# Altium footprint library Capacitor Tantalum Radial Bead.PcbLib: 37 footprints (part 3 of 3)
Each footprint in its own frame and in the unit in brackets; x right, y up, seen from the top. Pads: shape width x height; smd on the part's side, far side on the other; paste and mask are expansions set on the pad; w line width, h text height; cw(c..) or ccw(c..) is an arc to the next point about the centre after c.
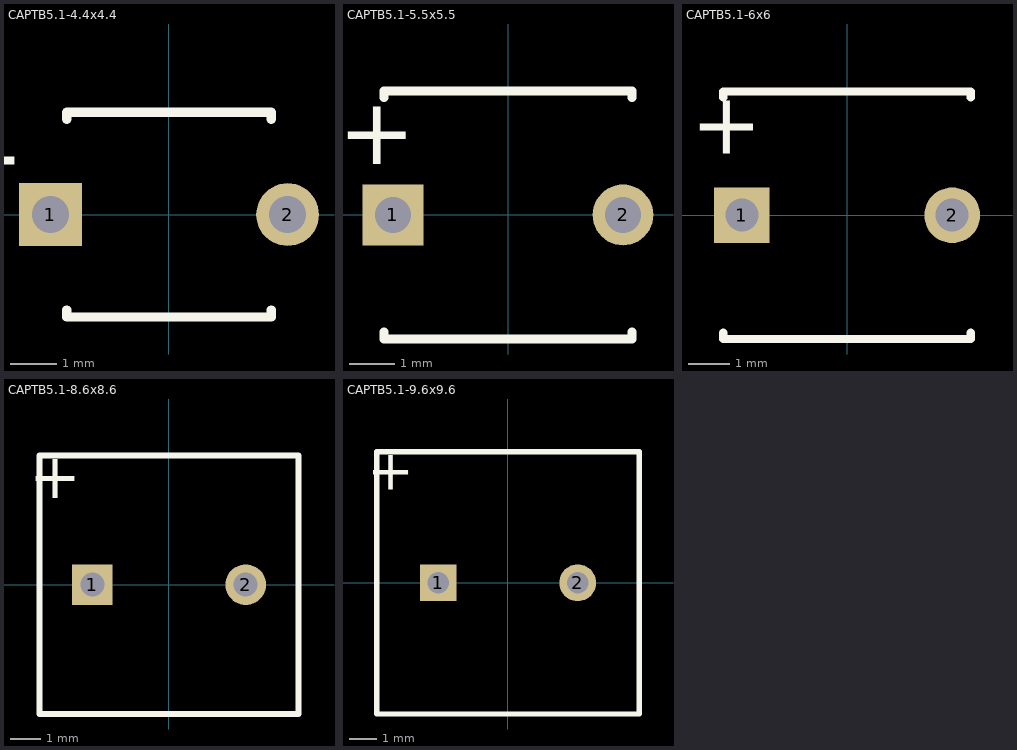
[diagram p2: the footprints below, top view; thin cyan lines are the x and y axes]

## CAPTB5.1-4.4x4.4 [mm] "Capacitor, Tantalum Bead; Body 4.4 x 8.64 mm (Dia.xH max); Pin Spacing 5.1 mm (typ)"
height 8.64
pads (2):
  rect 1.35x1.35 hole 0.8: 1(-2.55,0)
  round 1.35 hole 0.8: 2(2.55,0)
Top Overlay:
  lines w0.2: -2.2,-2.05 -2.2,-2.2 2.2,-2.2 2.2,-2.05 ; -2.2,2.05 -2.2,2.2 2.2,2.2 2.2,2.05
  text "+" at -3.1,1.8 h1.5

## CAPTB5.1-5.5x5.5 [mm] "Capacitor, Tantalum Bead; Body 5.5 x 10.67 mm (Dia.xH max); Pin Spacing 5.1 mm (typ)"
height 10.67
pads (2):
  rect 1.35x1.35 hole 0.8: 1(-2.55,0)
  round 1.35 hole 0.8: 2(2.55,0)
Top Overlay:
  lines w0.2: -2.75,-2.6 -2.75,-2.75 2.75,-2.75 2.75,-2.6 ; -2.75,2.6 -2.75,2.75 2.75,2.75 2.75,2.6
  text "+" at -2.05,2.4 h1.5

## CAPTB5.1-6x6 [mm] "Capacitor, Tantalum Bead; Body 6 x 11.68 mm (Dia.xH max); Pin Spacing 5.1 mm (typ)"
height 11.68
pads (2):
  rect 1.35x1.35 hole 0.8: 1(-2.55,0)
  round 1.35 hole 0.8: 2(2.55,0)
Top Overlay:
  lines w0.2: -3,-2.85 -3,-3 3,-3 3,-2.85 ; -3,2.85 -3,3 3,3 3,2.85
  text "+" at -2.05,2.77 h1.5

## CAPTB5.1-8.6x8.6 [mm] "Capacitor, Tantalum Bead; Body 8.6 x 14.02 mm (Dia.xH max); Pin Spacing 5.1 mm (typ)"
height 14.02
pads (2):
  rect 1.35x1.35 hole 0.8: 1(-2.55,0)
  round 1.35 hole 0.8: 2(2.55,0)
Top Overlay:
  lines w0.2: -4.3,-4.3 4.3,-4.3 4.3,4.3 -4.3,4.3 -4.3,-4.3
  text "+" at -2.925,4.175 h1.5

## CAPTB5.1-9.6x9.6 [mm] "Capacitor, Tantalum Bead; Body 9.6 x 18.03 mm (Dia.xH max); Pin Spacing 5.1 mm (typ)"
height 18.03
pads (2):
  rect 1.35x1.35 hole 0.8: 1(-2.55,0)
  round 1.35 hole 0.8: 2(2.55,0)
Top Overlay:
  lines w0.2: -4.8,-4.8 4.8,-4.8 4.8,4.8 -4.8,4.8 -4.8,-4.8
  text "+" at -3.425,4.675 h1.5